# Altium footprint library DP.PCBLIB: 2 footprints
Each footprint in its own frame and in the unit in brackets; x right, y up, seen from the top. Pads: shape width x height; smd on the part's side, far side on the other; paste and mask are expansions set on the pad; w line width, h text height; cw(c..) or ccw(c..) is an arc to the next point about the centre after c.
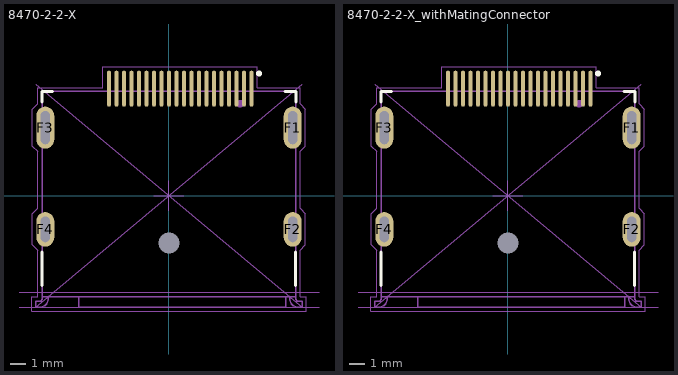
[diagram p0: the footprints below, top view; thin cyan lines are the x and y axes]

## 8470-2-2-X [mm] "Display Port, Buchse liegend"
height 7
pads (25):
  oval 0.28x2.4 smd: 1(5.5,7.142) 2(5,7.142) 3(4.5,7.142) 4(4,7.142) 5(3.5,7.142) 6(3,7.142) 7(2.5,7.142) 8(2,7.142) 9(1.5,7.142) 10(1,7.142) 11(0.5,7.142) 12(0,7.142) 13(-0.5,7.142) 14(-1,7.142) 15(-1.5,7.142) 16(-2,7.142) 17(-2.5,7.142) 18(-3,7.142) 19(-3.5,7.142) 20(-4,7.142)
  oval 1.2x2.8 hole 0.6 slot 2.2 at 90 deg: F1(8.25,4.542) F3(-8.25,4.542)
  oval 1.2x2.3 hole 0.6 slot 1.7 at 90 deg: F2(8.25,-2.238) F4(-8.25,-2.238)
  round 0 hole 1.4 unplated: H1(0,-3.138)
Top Overlay:
  circle w0.2: c6,8.152 r0.1
  lines w0.2: -8.45,-5.998 -8.45,-3.748 ; -8.45,6.252 -8.45,6.952 -7.75,6.952 ; 7.75,6.952 8.45,6.952 8.45,6.252 ; 8.45,-5.998 8.45,-3.748
Top Assembly:
  circle w0.5: c4.75,6.142 r0.01
  lines w0.1: -8.045,-6.738 -8.045,-6.838 cw(c-8.645,-6.838) -8.645,-7.438 -8.895,-7.438 -8.895,-7.038 -8.645,-7.038 ccw(c-8.645,-6.843) -8.45,-6.843 -8.45,-6.738 ; -6,-6.738 -6,-7.438 7.645,-7.438 7.795,-7.438 7.795,-6.738 ; 8.045,-6.738 8.045,-6.838 ccw(c8.645,-6.838) 8.645,-7.438 8.895,-7.438 8.895,-7.038 8.645,-7.038 cw(c8.645,-6.843) 8.45,-6.843 8.45,-6.738 ; -8.45,-6.738 8.45,-6.738 ; -8.45,-6.738 -8.45,6.952 8.45,6.952 8.45,-6.738
Top Courtyard:
  lines w0.05: -10,-7.438 10,-7.438 ; -10,-6.418 10,-6.418 ; -8.895,-7.438 8.89,7.442 ; -8.895,7.442 8.89,-7.438 ; -9.15,-7.698 9.15,-7.698 9.15,-6.748 8.75,-6.748 8.75,-3.628 9.1,-3.278 9.1,-1.248 9.1,-1.198 8.75,-0.848 8.75,2.952 9.1,3.302 9.1,5.782 8.75,6.132 8.75,7.202 5.9,7.202 5.9,8.602 -4.4,8.602 -4.4,7.202 -8.75,7.202 -8.75,6.132 -9.1,5.782 -9.1,3.302 -8.75,2.952 -8.75,-0.848 -9.1,-1.198 -9.1,-1.248 -9.1,-3.278 -8.75,-3.628 -8.75,-6.748 -9.15,-6.748 -9.15,-7.698
  text "PCB Edge" at 0.95,-6.2 h0.5
  text "Connector Edge" at 0.9,-7.25 h0.5
Top Designator:
  text ".Designator" at -1.5,1.502 h1
Top Component Center:
  lines w0.05: -1,0 1,0 ; 0,-1 0,1
3D body "472720001.stp": height 6.65, standoff -2.1, extent -8.895,-7.448 8.89,7.442

## 8470-2-2-X_withMatingConnector [mm] "Display Port, Buchse liegend"
height 7
pads (25):
  oval 0.28x2.4 smd: 1(5.5,7.142) 2(5,7.142) 3(4.5,7.142) 4(4,7.142) 5(3.5,7.142) 6(3,7.142) 7(2.5,7.142) 8(2,7.142) 9(1.5,7.142) 10(1,7.142) 11(0.5,7.142) 12(0,7.142) 13(-0.5,7.142) 14(-1,7.142) 15(-1.5,7.142) 16(-2,7.142) 17(-2.5,7.142) 18(-3,7.142) 19(-3.5,7.142) 20(-4,7.142)
  oval 1.2x2.8 hole 0.6 slot 2.2 at 90 deg: F1(8.25,4.542) F3(-8.25,4.542)
  oval 1.2x2.3 hole 0.6 slot 1.7 at 90 deg: F2(8.25,-2.238) F4(-8.25,-2.238)
  round 0 hole 1.4 unplated: H1(0,-3.138)
Top Overlay:
  circle w0.2: c6,8.152 r0.1
  lines w0.2: -8.45,-5.998 -8.45,-3.748 ; -8.45,6.252 -8.45,6.952 -7.75,6.952 ; 7.75,6.952 8.45,6.952 8.45,6.252 ; 8.45,-5.998 8.45,-3.748
Top Assembly:
  circle w0.5: c4.75,6.142 r0.01
  lines w0.1: -8.045,-6.738 -8.045,-6.838 cw(c-8.645,-6.838) -8.645,-7.438 -8.895,-7.438 -8.895,-7.038 -8.645,-7.038 ccw(c-8.645,-6.843) -8.45,-6.843 -8.45,-6.738 ; -6,-6.738 -6,-7.438 7.645,-7.438 7.795,-7.438 7.795,-6.738 ; 8.045,-6.738 8.045,-6.838 ccw(c8.645,-6.838) 8.645,-7.438 8.895,-7.438 8.895,-7.038 8.645,-7.038 cw(c8.645,-6.843) 8.45,-6.843 8.45,-6.738 ; -8.45,-6.738 -8.45,6.952 8.45,6.952 8.45,-6.738 ; -8.45,-6.738 8.45,-6.738
Top Courtyard:
  lines w0.05: -10,-7.438 10,-7.438 ; -10,-6.418 10,-6.418 ; -8.895,-7.438 8.89,7.442 ; -8.895,7.442 8.89,-7.438 ; -9.15,-7.698 -9.15,-6.748 -8.75,-6.748 -8.75,-3.628 -9.1,-3.278 -9.1,-1.248 -9.1,-1.198 -8.75,-0.848 -8.75,2.952 -9.1,3.302 -9.1,5.782 -8.75,6.132 -8.75,7.202 -4.4,7.202 -4.4,8.602 5.9,8.602 5.9,7.202 8.75,7.202 8.75,6.132 9.1,5.782 9.1,3.302 8.75,2.952 8.75,-0.848 9.1,-1.198 9.1,-1.248 9.1,-3.278 8.75,-3.628 8.75,-6.748 9.15,-6.748 9.15,-7.698 -9.15,-7.698
  text "Connector Edge" at 0.9,-7.25 h0.5
  text "PCB Edge" at 0.95,-6.2 h0.5
Top Designator:
  text ".Designator" at -1.5,1.502 h1
Top Component Center:
  lines w0.05: -1,0 1,0 ; 0,-1 0,1
3D body "DisplayPortPlug.STEP": height 10.79, standoff -2.79, extent -9.92,-58.423 10.019,1.8
3D body "472720001.stp": height 6.65, standoff -2.1, extent -8.895,-7.448 8.89,7.442